# Altium footprint library OltestLib_chul.PcbLib: 102 footprints (part 5 of 7)
Each footprint in its own frame and in the unit in brackets; x right, y up, seen from the top. Pads: shape width x height; smd on the part's side, far side on the other; paste and mask are expansions set on the pad; w line width, h text height; cw(c..) or ccw(c..) is an arc to the next point about the centre after c.
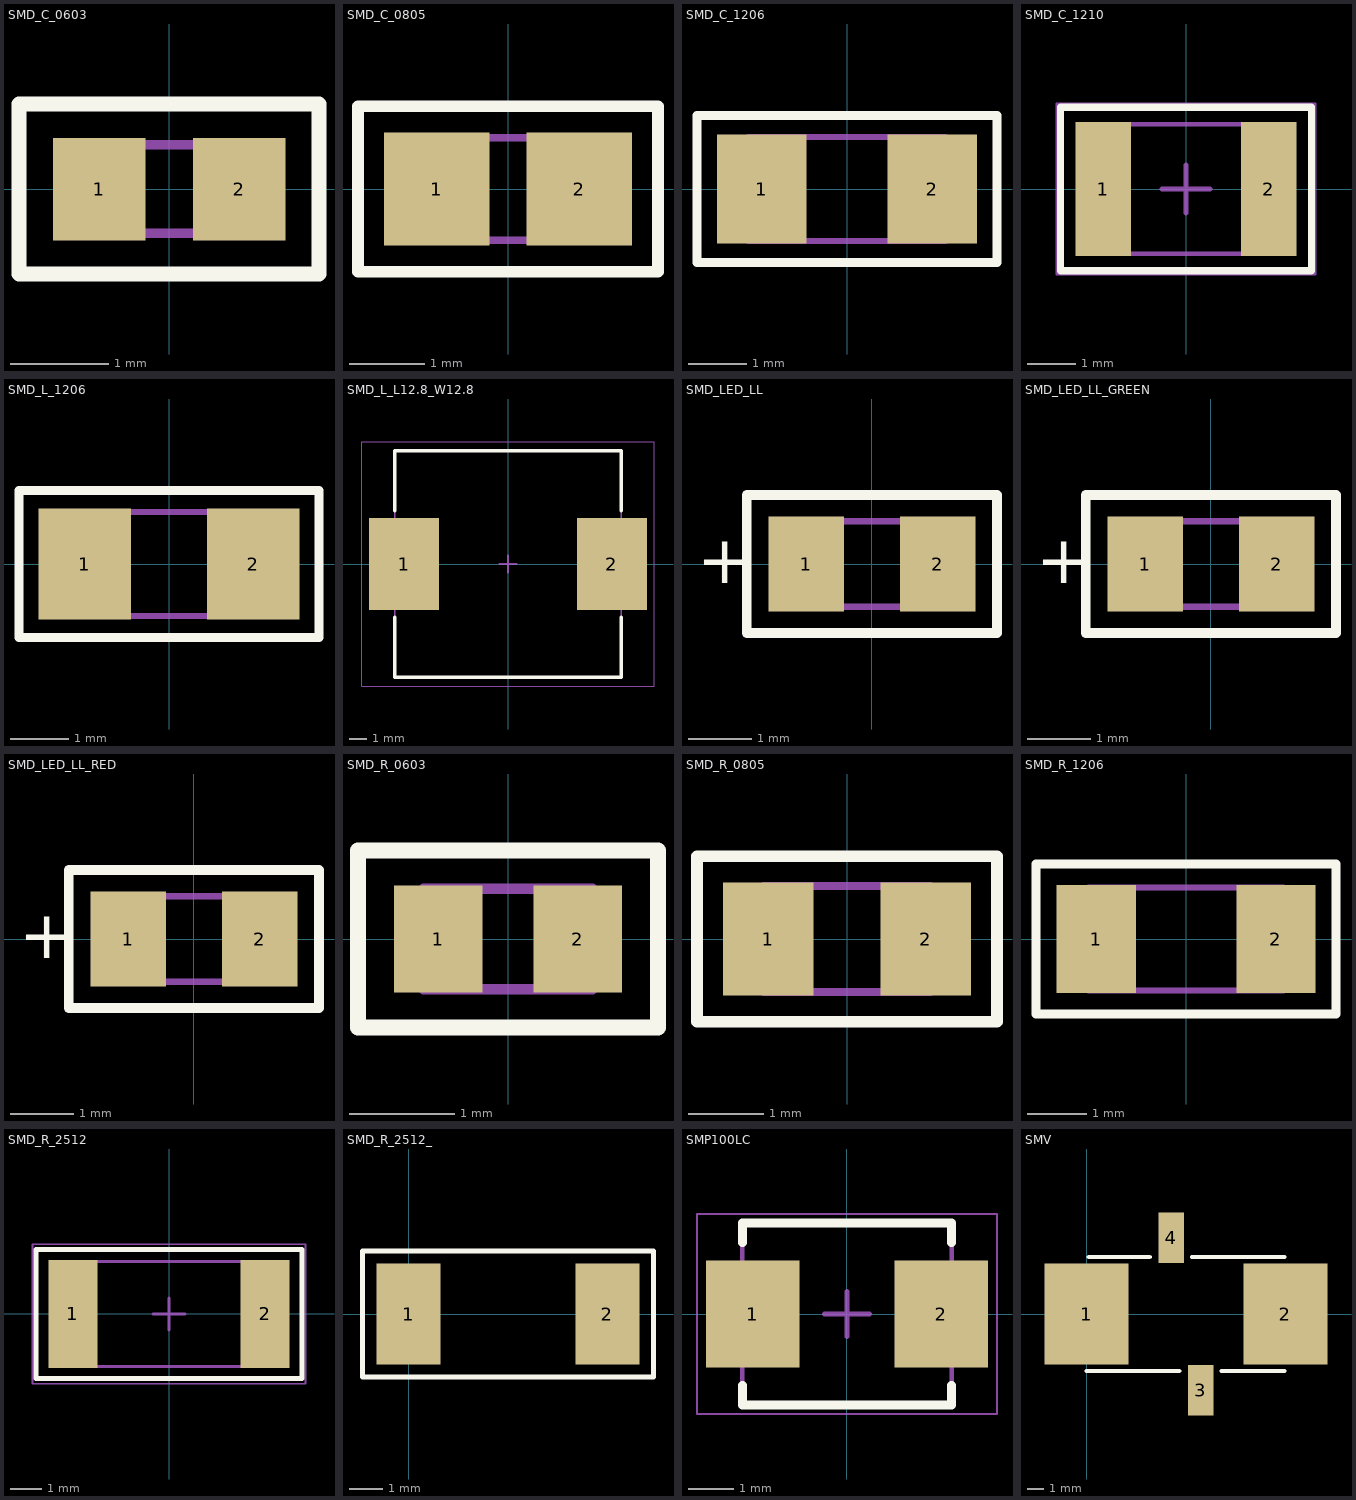
[diagram p4: the footprints below, top view; thin cyan lines are the x and y axes]

## SMD_C_0603 [mil] "Chip Capacitor, 2-Leads, Body 1,60x0,80mm, IPC Low Density"
height 31.5
pads (2):
  rect 37x41 smd: 1(-28,0) 2(28,0)
Top Overlay:
  lines w6: -60,-34 60,-34 60,34 -60,34 -60,-34
Mechanical 13:
  lines w3.94: -33.46,-17.72 -33.46,17.72 33.46,17.72 33.46,-17.72 -33.46,-17.72
3D body: height 31.5, standoff 0, extent -33.46,-17.72 33.46,17.72

## SMD_C_0805 [mil] "Chip Capacitor, 2-Leads, Body 2,00x1,25mm, IPC Low Density"
height 23.62
pads (2):
  rect 55x59 smd: 1(-37,0) 2(37,0)
Top Overlay:
  lines w6: -78,-43 78,-43 78,43 -78,43 -78,-43
Mechanical 13:
  lines w3.94: -41.34,-26.57 41.34,-26.57 41.34,26.57 -41.34,26.57 -41.34,-26.57
3D body: height 23.62, standoff 0, extent -41.34,-26.57 41.34,26.57

## SMD_C_1206 [mil] "Chip Capacitor, 2-Leads, Body 3,20x1,60mm, IPC Low Density"
height 62.99
pads (2):
  rect 61x74 smd: 1(-58,0) 2(58,0)
Top Overlay:
  lines w6: -102,-50 -102,50 102,50 102,-50 -102,-50
Mechanical 13:
  lines w3.94: -66.93,-35.43 66.93,-35.43 66.93,35.43 -66.93,35.43 -66.93,-35.43
3D body: height 62.99, standoff 0, extent -66.93,-35.43 66.93,35.43

## SMD_C_1210 [mm] "Chip Capacitor, 2-Leads, Body 3,20x2,50mm, IPC Low Density"
height 2.5
pads (2):
  rect 1.15x2.8 smd: 1(-1.725,0) 2(1.725,0)
Top Overlay:
  lines w0.152: -2.616,-1.702 -2.616,1.702 2.616,1.702 2.616,-1.702 -2.616,-1.702
Mechanical 13:
  lines w0.1: -1.75,-1.35 1.75,-1.35 1.75,1.35 -1.75,1.35 -1.75,-1.35
Mechanical 15:
  lines w0.05: -2.692,-1.778 2.692,-1.778 2.692,1.778 -2.692,1.778 -2.692,-1.778
  lines w0.1: -0.5,0 0.5,0 ; 0,-0.5 0,0.5
3D body: height 2.5, standoff 0, extent -1.75,-1.35 1.75,1.35

## SMD_L_1206 [mm] "Chip Inductor, 2-Leads, Body 3,20x1,60mm, IPC Low Density"
height 1.1
pads (2):
  rect 1.59x1.92 smd: 1(-1.455,0) 2(1.455,0)
Top Overlay:
  lines w0.152: -2.591,-1.27 2.591,-1.27 2.591,1.27 -2.591,1.27 -2.591,-1.27
Mechanical 13:
  lines w0.1: -1.7,-0.9 -1.7,0.9 1.7,0.9 1.7,-0.9 -1.7,-0.9
3D body: height 1.1, standoff 0, extent -1.7,-0.9 1.7,0.9

## SMD_L_L12.8_W12.8 [mil] "Precision Wire Wound Inductor, 2-Leads, Body 12,80x12,80mm, IPC Low Density"
height 314.96
pads (2):
  rect 155x205 smd: 1(-231.3,0) 2(231.3,0)
Top Overlay:
  lines w7.87: -251.97,-118.11 -251.97,-251.97 251.97,-251.97 251.97,-118.11 ; -251.97,118.11 -251.97,251.97 251.97,251.97 251.97,118.11
Mechanical 13:
  lines w3.94: -251.97,-251.97 251.97,-251.97 251.97,251.97 -251.97,251.97 -251.97,-251.97
Mechanical 15:
  lines w1.97: -325,-271.65 325,-271.65 325,271.65 -325,271.65 -325,-271.65
  lines w3.94: -19.68,0 19.69,0 ; 0,-19.68 0,19.68
3D body: height 318.9, standoff 0, extent -255.91,-251.97 255.91,251.97

## SMD_LED_LL [mil] "Chip Diode, 2-Leads, Body 2,00x1,25mm, IPC Low Density"
height 31.5
pads (2):
  rect 47x59 smd: 1(-41,0) 2(41,0)
Top Overlay:
  lines w6: -78,-43 78,-43 78,43 -78,43 -78,-43
  text "+" at -109,-12 h30
Mechanical 13:
  lines w3.94: -41.34,-26.57 41.34,-26.57 41.34,26.57 -41.34,26.57 -41.34,-26.57
3D body: height 31.5, standoff 0, extent 25.59,-26.57 41.34,26.57
3D body: height 31.5, standoff 0, extent -41.34,-26.57 -25.59,26.57
3D body: height 31.5, standoff 0, extent -25.59,-26.57 25.59,26.57

## SMD_LED_LL_GREEN [mil] "Chip Diode, 2-Leads, Body 2,00x1,25mm, IPC Low Density"
height 31.5
pads (2):
  rect 47x59 smd: 1(-41,0) 2(41,0)
Top Overlay:
  lines w6: -78,-43 78,-43 78,43 -78,43 -78,-43
  text "+" at -109,-12 h30
Mechanical 13:
  lines w3.94: -41.34,-26.57 41.34,-26.57 41.34,26.57 -41.34,26.57 -41.34,-26.57
3D body: height 31.5, standoff 0, extent 25.59,-26.57 41.34,26.57
3D body: height 31.5, standoff 0, extent -41.34,-26.57 -25.59,26.57
3D body: height 31.5, standoff 0, extent -25.59,-26.57 25.59,26.57

## SMD_LED_LL_RED [mil] "Chip Diode, 2-Leads, Body 2,00x1,25mm, IPC Low Density"
height 31.5
pads (2):
  rect 47x59 smd: 1(-41,0) 2(41,0)
Top Overlay:
  lines w6: -78,-43 78,-43 78,43 -78,43 -78,-43
  text "+" at -109,-12 h30
Mechanical 13:
  lines w3.94: -41.34,-26.57 41.34,-26.57 41.34,26.57 -41.34,26.57 -41.34,-26.57
3D body: height 31.5, standoff 0, extent 25.59,-26.57 41.34,26.57
3D body: height 31.5, standoff 0, extent -41.34,-26.57 -25.59,26.57
3D body: height 31.5, standoff 0, extent -25.59,-26.57 25.59,26.57

## SMD_R_0603 [mil] "Chip Resistor, 2-Leads, Body 1,55x0,85mm, IPC Low Density"
height 17.72
pads (2):
  rect 33x40 smd: 1(-26,0) 2(26,0)
Top Overlay:
  lines w6: -56,-33 -56,33 56,33 56,-33 -56,-33
Mechanical 13:
  lines w3.94: -31.5,-18.7 -31.5,18.7 31.5,18.7 31.5,-18.7 -31.5,-18.7
3D body: height 17.72, standoff 0, extent -31.5,-18.7 31.5,18.7

## SMD_R_0805 [mil] "Chip Resistor, 2-Leads, Body 2,05x1,22mm, IPC Low Density"
height 17.72
pads (2):
  rect 47x59 smd: 1(-41,0) 2(41,0)
Top Overlay:
  lines w6: -78,-43 -78,43 78,43 78,-43 -78,-43
Mechanical 13:
  lines w3.94: -43.31,-27.56 -43.31,27.56 43.31,27.56 43.31,-27.56 -43.31,-27.56
3D body: height 17.72, standoff 0, extent -43.31,-27.56 43.31,27.56

## SMD_R_1206 [mil] "Chip Resistor, 2-Leads, Body 3,15x1,60mm, IPC Low Density"
height 21.65
pads (2):
  rect 53x72 smd: 1(-60,0) 2(60,0)
Top Overlay:
  lines w6: -100,-50 -100,50 100,50 100,-50 -100,-50
Mechanical 13:
  lines w3.94: -64.96,-34.45 64.96,-34.45 64.96,34.45 -64.96,34.45 -64.96,-34.45
3D body: height 21.65, standoff 0, extent -64.96,-34.45 64.96,34.45

## SMD_R_2512 [mm] "Chip Resistor, 2-Leads, Body 6,30x3,15mm, IPC Low Density"
height 0.6
pads (2):
  rect 1.55x3.4 smd: 1(-3.025,0) 2(3.025,0)
Top Overlay:
  lines w0.152: -4.191,-2.032 -4.191,2.032 4.191,2.032 4.191,-2.032 -4.191,-2.032
Mechanical 13:
  lines w0.1: -3.25,-1.65 -3.25,1.65 3.25,1.65 3.25,-1.65 -3.25,-1.65
Mechanical 15:
  lines w0.05: -4.3,-2.2 -4.3,2.2 4.3,2.2 4.3,-2.2 -4.3,-2.2
  lines w0.1: -0.5,0 0.5,0 ; 0,-0.5 0,0.5
3D body: height 0.6, standoff 0, extent -3.25,-1.65 3.25,1.65

## SMD_R_2512_ [mil]
pads (2):
  rect 76x120 smd: 1(0,0) 2(236,0)
Top Overlay:
  lines w6: -54.5,-75 -54.5,75 290.5,75 290.5,-75 -54.5,-75

## SMP100LC [mm] "SODFL, 2-Leads, Body 3,63x5,35mm, IPC Low Density"
height 2.5
pads (2):
  rect 2.05x2.35 smd: 1(-2.075,0) 2(2.075,0)
Top Overlay:
  lines w0.2: -2.3,-1.575 -2.3,-2 2.3,-2 2.3,-1.575 ; -2.3,1.575 -2.3,2 2.3,2 2.3,1.575
Mechanical 13:
  lines w0.1: -2.3,-1.975 2.3,-1.975 2.3,1.975 -2.3,1.975 -2.3,-1.975
Mechanical 15:
  lines w0.05: -3.3,-2.2 3.3,-2.2 3.3,2.2 -3.3,2.2 -3.3,-2.2
  lines w0.1: -0.5,0 0.5,0 ; 0,-0.5 0,0.5
3D body: height 2.5, standoff 0, extent -2.675,-1.975 2.675,1.975

## SMV [mil]
pads (4):
  rect 200x240 smd: 1(0,0) 2(472,0)
  rect 60x120 smd: 3(271,-181) 4(201,181)
Top Overlay:
  lines w10: 0,-135 220,-135 ; 5,135 150,135 ; 250,135 470,135 ; 320,-135 470,-135
3D body: height 133, standoff 0, extent 1,-120 471,120